# Altium integrated library Analog Devices Data Converters Analog-to-Digital Converters.IntLib: 2400 symbols (part 144 of 338)
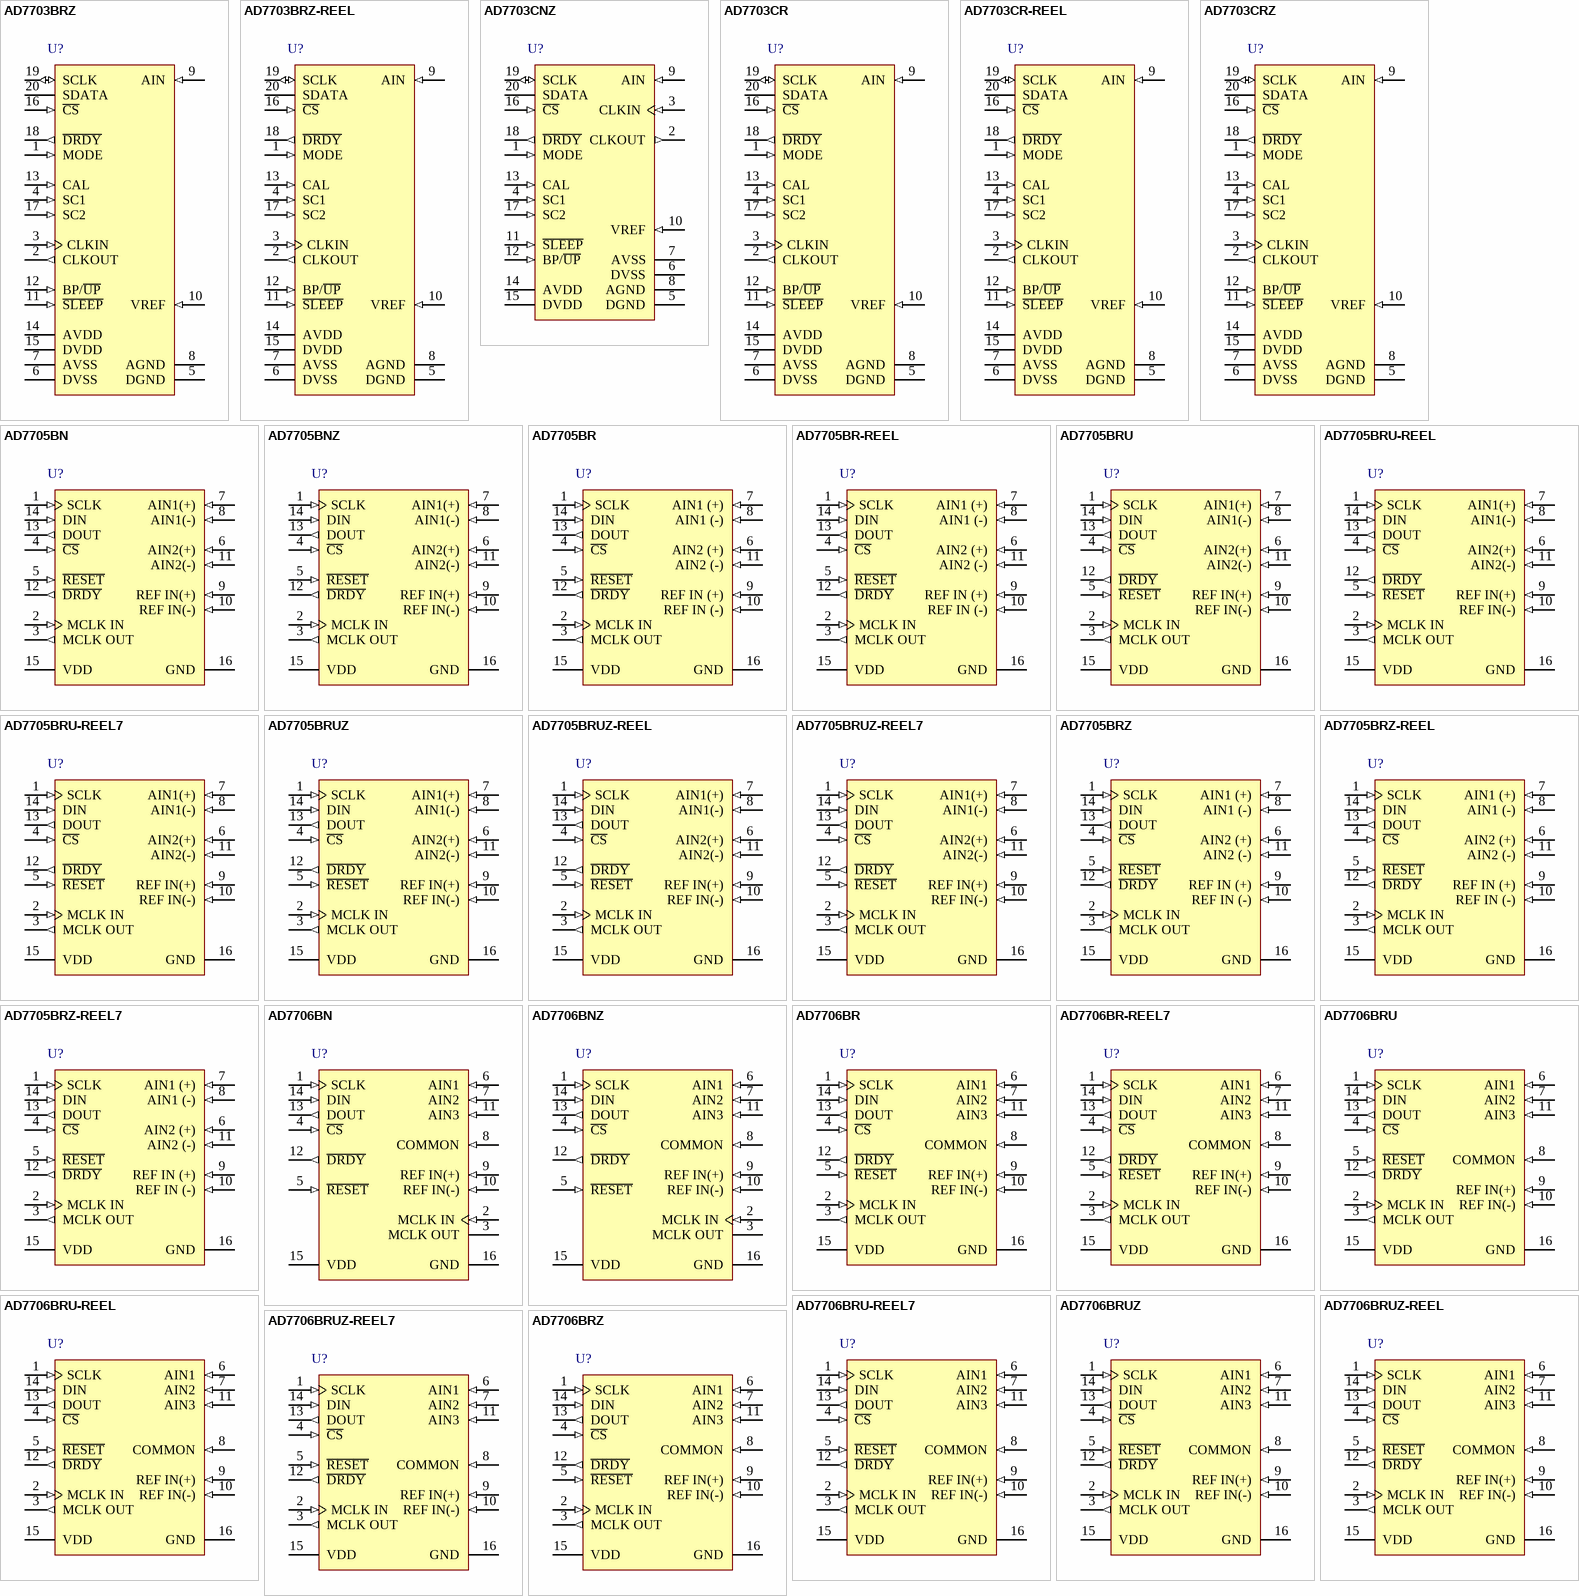
[diagram p337: symbols AD7703BRZ to AD7706BRZ]

## AD7706BRUZ-REEL
designator U?
3 Channel 16-Bit Sigma-Delta Analog-to-Digital Converter with Serial, SPI Interface, 1 mW, 3 V / 5 V, 500SPS, -40 to +85 degC, RU-16, Pb-Free, Reel; Part Number: AD7706; Manufacturer: Analog Devices; Resolution (Bits): 16; Channels: 3; Throughput Rate (SPS): 500; Interface: Ser, SPI; DatasheetVersion: Rev.C; PackageVersion: Nov-2002; PackageReference: RU-16; PackageDescription: 16-Lead Thin Shrink Small Outline Package [TSSOP]; RoHS: Y; Packing: Reel; Mounting Technology: Surface Mount; Code_JEDEC: MO-153-AB; ComponentLink1Description: Manufacturer URL; ComponentLink1URL: http://www.analog.com/en/index.html; ComponentLink2Description: Datasheet; ComponentLink2URL: http://www.analog.com/static/imported-files/data_sheets/AD7705_7706.pdf; ComponentLink3Description: Package Specification; ComponentLink3URL: http://www.analog.com/static/imported-files/packages/36244347913743854010197452789RU16.pdf; ComponentLink4Description: Product URL; ComponentLink4URL: http://www.analog.com/en/analog-to-digital-converters/ad-converters/ad7706/products/product.html
footprint RU-16_N (TSOP, 16-Leads, Body 5x4.4mm, Pitch 0.65mm, IPC Medium Density)
footprint RU-16_L (TSOP, 16-Leads, Body 5x4.4mm, Pitch 0.65mm, IPC High Density)
footprint RU-16_M (TSOP, 16-Leads, Body 5x4.4mm, Pitch 0.65mm, IPC Low Density)
pins: 1 SCLK (in) "Serial Clock. An external serial clock is applied to the Schmitt-triggered logic input to access serial data from the AD7705/AD7706. This serial clock can be a continuous clock with all data transmitted in a continuous train (See Datasheet)", 2 MCLK IN (in) "Master Clock Signal. This can be provided in the form of a crystal/resonator or external clock. A crystal/resonator can be tied across the Pin MCLK IN and Pin MCLK OUT. Alternatively, the MCLK IN pin can be driven with a (See Datasheet)", 3 MCLK OUT (out) "When the master clock for these devices is a crystal/resonator, the crystal/resonator is connected between Pin MCLK IN and Pin MCLK OUT. If an external clock is applied to Pin MCLK IN, Pin MCLK OUT provides an inverted clock (See Datasheet)", 4 ~{CS} (in) "Chip Select. Active low logic input used to select the AD7705/AD7706. With this input hardwired low, the AD7705/AD7706 can operate in its 3-wire interface mode with Pin SCLK, Pin DIN, and Pin DOUT used to interface to the (See Datasheet)", 5 ~{RESET} (in) "Logic Input. Active low input that resets the control logic, interface logic, calibration coefficients, digital filter, and analog modulator of the parts to power-on status.", 6 AIN1 (in) "Positive Input of the Differential Analog Input Pair AIN2(+)/AIN2(-) for AD7705. Channel 1 for AD7706.", 7 AIN2 (in) "Positive Input of the Differential Analog Input Pair AIN1(+)/AIN1(-) for AD7705. Channel 2 for AD7706.", 8 COMMON (in) "Negative Input of the Differential Analog Input Pair AIN1(+)/AIN1(-) for AD7705. COMMON input for AD7706 with Channel 1, Channel 2, and Channel 3 referenced to this input.", 9 REF IN(+) (in) "Reference Input. Positive input of the differential reference input to the AD7705/AD7706. The reference input is differential with the provision that REF IN(+) must be greater than REF IN(-). REF IN(+) can lie anywhere (See Datasheet)", 10 REF IN(-) (in) "Reference Input. Negative input of the differential reference input to the AD7705/AD7706. The REF IN(-) can lie anywhere between VDD and GND, provided that REF IN(+) is greater than REF IN(-).", 11 AIN3 (in) "Negative Input of the Differential Analog Input Pair AIN2(+)/AIN2(-) for AD7705. Channel 3 for AD7706.", 12 ~{DRDY} (out) "Logic Output. A logic low on this output indicates that a new output word is available from the AD7705/AD7706 data register. The D\R\D\Y\ pin returns high upon completion of a read operation of a full output word. If no data (See Datasheet)", 13 DOUT (out) "Serial Data Output. Serial data is read from the output shift register on the part. The output shift register can contain information from the setup register, communication register, clock register, or data register, (See Datasheet)", 14 DIN (in) "Serial Data Input. Serial data is written to the input shift register on the part. Data from the input shift register is transferred to the setup register, clock register, or communication register, depending on the register (See Datasheet)", 15 VDD (power) "Supply Voltage. 2.7 V to 5.25 V operation.", 16 GND (power) "Ground Reference Point for the AD7705/AD7706 Internal Circuitry."

## AD7706BRUZ-REEL7
designator U?
3 Channel 16-Bit Sigma-Delta Analog-to-Digital Converter with Serial, SPI Interface, 1 mW, 3 V / 5 V, 500SPS, -40 to +85 degC, RU-16, Pb-Free, Reel; Part Number: AD7706; Manufacturer: Analog Devices; Resolution (Bits): 16; Channels: 3; Throughput Rate (SPS): 500; Interface: Ser, SPI; DatasheetVersion: Rev.C; PackageVersion: Nov-2002; PackageReference: RU-16; PackageDescription: 16-Lead Thin Shrink Small Outline Package [TSSOP]; RoHS: Y; Packing: Reel; Mounting Technology: Surface Mount; Code_JEDEC: MO-153-AB; ComponentLink1Description: Manufacturer URL; ComponentLink1URL: http://www.analog.com/en/index.html; ComponentLink2Description: Datasheet; ComponentLink2URL: http://www.analog.com/static/imported-files/data_sheets/AD7705_7706.pdf; ComponentLink3Description: Package Specification; ComponentLink3URL: http://www.analog.com/static/imported-files/packages/36244347913743854010197452789RU16.pdf; ComponentLink4Description: Product URL; ComponentLink4URL: http://www.analog.com/en/analog-to-digital-converters/ad-converters/ad7706/products/product.html
footprint RU-16_N (TSOP, 16-Leads, Body 5x4.4mm, Pitch 0.65mm, IPC Medium Density)
footprint RU-16_L (TSOP, 16-Leads, Body 5x4.4mm, Pitch 0.65mm, IPC High Density)
footprint RU-16_M (TSOP, 16-Leads, Body 5x4.4mm, Pitch 0.65mm, IPC Low Density)
pins: 1 SCLK (in) "Serial Clock. An external serial clock is applied to the Schmitt-triggered logic input to access serial data from the AD7705/AD7706. This serial clock can be a continuous clock with all data transmitted in a continuous train (See Datasheet)", 2 MCLK IN (in) "Master Clock Signal. This can be provided in the form of a crystal/resonator or external clock. A crystal/resonator can be tied across the Pin MCLK IN and Pin MCLK OUT. Alternatively, the MCLK IN pin can be driven with a (See Datasheet)", 3 MCLK OUT (out) "When the master clock for these devices is a crystal/resonator, the crystal/resonator is connected between Pin MCLK IN and Pin MCLK OUT. If an external clock is applied to Pin MCLK IN, Pin MCLK OUT provides an inverted clock (See Datasheet)", 4 ~{CS} (in) "Chip Select. Active low logic input used to select the AD7705/AD7706. With this input hardwired low, the AD7705/AD7706 can operate in its 3-wire interface mode with Pin SCLK, Pin DIN, and Pin DOUT used to interface to the (See Datasheet)", 5 ~{RESET} (in) "Logic Input. Active low input that resets the control logic, interface logic, calibration coefficients, digital filter, and analog modulator of the parts to power-on status.", 6 AIN1 (in) "Positive Input of the Differential Analog Input Pair AIN2(+)/AIN2(-) for AD7705. Channel 1 for AD7706.", 7 AIN2 (in) "Positive Input of the Differential Analog Input Pair AIN1(+)/AIN1(-) for AD7705. Channel 2 for AD7706.", 8 COMMON (in) "Negative Input of the Differential Analog Input Pair AIN1(+)/AIN1(-) for AD7705. COMMON input for AD7706 with Channel 1, Channel 2, and Channel 3 referenced to this input.", 9 REF IN(+) (in) "Reference Input. Positive input of the differential reference input to the AD7705/AD7706. The reference input is differential with the provision that REF IN(+) must be greater than REF IN(-). REF IN(+) can lie anywhere (See Datasheet)", 10 REF IN(-) (in) "Reference Input. Negative input of the differential reference input to the AD7705/AD7706. The REF IN(-) can lie anywhere between VDD and GND, provided that REF IN(+) is greater than REF IN(-).", 11 AIN3 (in) "Negative Input of the Differential Analog Input Pair AIN2(+)/AIN2(-) for AD7705. Channel 3 for AD7706.", 12 ~{DRDY} (out) "Logic Output. A logic low on this output indicates that a new output word is available from the AD7705/AD7706 data register. The D\R\D\Y\ pin returns high upon completion of a read operation of a full output word. If no data (See Datasheet)", 13 DOUT (out) "Serial Data Output. Serial data is read from the output shift register on the part. The output shift register can contain information from the setup register, communication register, clock register, or data register, (See Datasheet)", 14 DIN (in) "Serial Data Input. Serial data is written to the input shift register on the part. Data from the input shift register is transferred to the setup register, clock register, or communication register, depending on the register (See Datasheet)", 15 VDD (power) "Supply Voltage. 2.7 V to 5.25 V operation.", 16 GND (power) "Ground Reference Point for the AD7705/AD7706 Internal Circuitry."